# Altium schematic symbol library Aquarium_Control.SchLib: 8 symbols
Pins are listed as number, name and electrical type; pins without a type are passive.

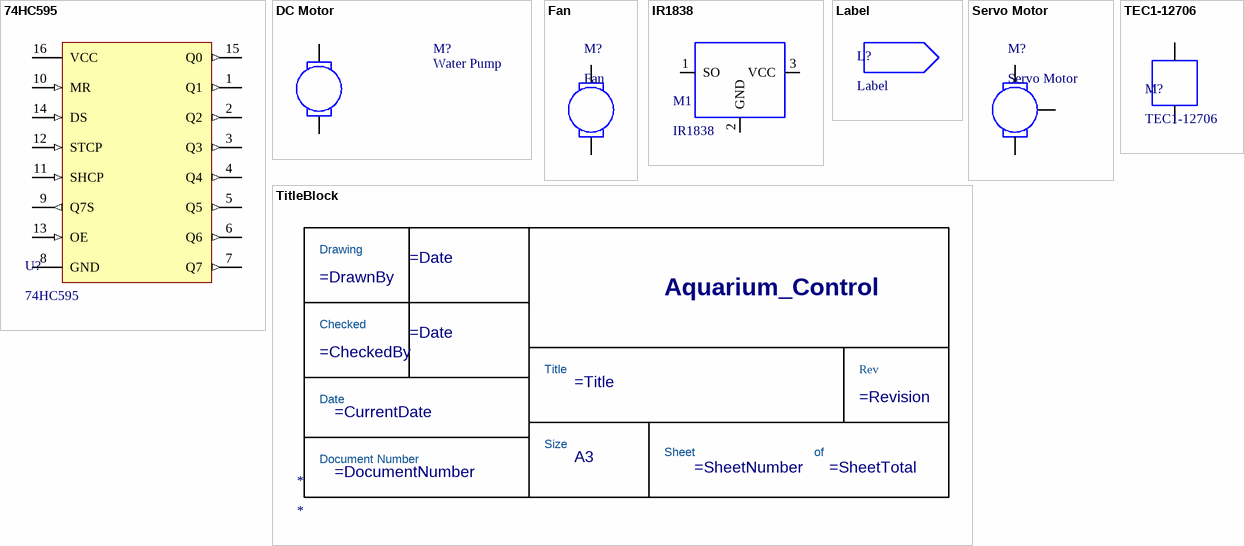
[diagram p0: symbols 74HC595 to TitleBlock]

## 74HC595
designator U?
pins: 1 Q1 (out), 2 Q2 (out), 3 Q3 (out), 4 Q4 (out), 5 Q5 (out), 6 Q6 (out), 7 Q7 (out), 8 GND, 9 Q7S (out), 10 MR (in), 11 SHCP (in), 12 STCP (in), 13 OE (in), 14 DS (in), 15 Q0 (out), 16 VCC

## DC Motor
designator M?, comment Water Pump
LA: 1.5M; RA: 0.5; KE: 0.05; JM: 250U; BM: 0.1M; TL: 0; SimulationGenericComponent: True; KT: 0.05
simulation model DC_MOTOR (Motors)
pins: 1, 2

## Fan
designator M?
pins: 1, 2

## IR1838
designator M1
pins: 1 SO, 2 GND, 3 VCC

## Label
designator L?

## Servo Motor
designator M?
pins: 1, 1 (power), 1

## TEC1-12706
designator M?
pins: 1, 2

## TitleBlock
designator *  (graphical)
Common Title Block
text: Drawing; Aquarium_Control; Checked; Title; Rev; Date; Size; Sheet; of; Document Number; A3